# Altium schematic symbol library Antennas.SchLib: 7 symbols
Pins are listed as number, name and electrical type; pins without a type are passive.

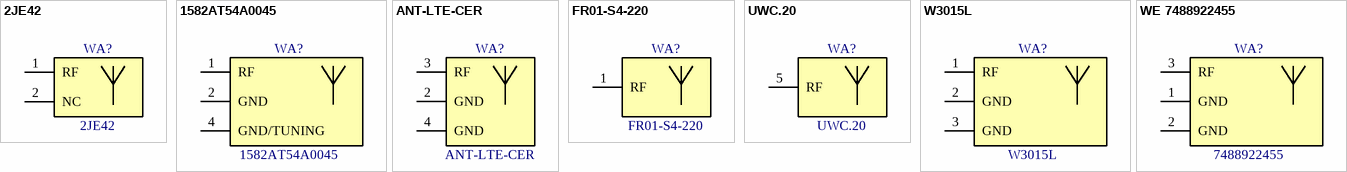
[diagram p0: symbols 2JE42 to WE 7488922455]

## 2JE42
designator WA?
915 MHz ISM Surface Mount; Manufacturer: 2J Antennas; PartNumber: 2JE42; ComponentLink1Description: Product Page; ComponentLink1URL: https://www.2j-antennas.com/antennas/single-internal-antennas/2je42-915-mhz-ism-surface-mount-compact-fiberglass-antenna/676; ComponentLink2Description: DataSheet; ComponentLink2URL: https://www.2j-antennas.com/media/original/datasheets/2je42.pdf
footprint 2JE42 (915 MHz ISM Surface Mount)
pins: 1 RF, 2 NC

## 1582AT54A0045
designator WA?
1.585GHz Global Navigation (GPS, GLONASS, Beidou, Galileo) SMD Chip Antenna; Manufacturer: Johanson Technology; PartNumber: 1582AT54A0045; ComponentLink1Description: Product Page; ComponentLink1URL: https://www.johansontechnology.com/antennas?option=com_products&id=1582AT54A0045; ComponentLink2Description: DataSheet; ComponentLink2URL: https://www.johansontechnology.com/datasheets/1582AT54A0045/1582AT54A0045.pdf
footprint 1582AT54A0045 (Johanson Technology chip antenna 1582AT54A0045)
pins: 1 RF, 2 GND, 4 GND/TUNING

## ANT-LTE-CER
designator WA?
Ceramic  4G/3G/2G LTE Antenna; Manufacturer: Linx Technologies; PartNumber: ANT-LTE-CER; ComponentLink1Description: Product Page; ComponentLink1URL: https://linxtechnologies.com/wp/product/lte-chip-antenna/
footprint ANT-LTE-CER (Linx ANT-LTE-CER)
pins: 1 NC hidden, 2 GND, 3 RF, 4 GND, 5 NC hidden

## FR01-S4-220
designator WA?
The ALL mXTENDTM chip antenna standards GSM850, GSM900,  GSM1800/DCS, GSM1900/PCS, UMTS, LTE700, LTE800, LTE850, LTE900, LTE1700,  LTE1800, LTE1900, LTE2000, LTE2100, LTE2300, LTE2500, and LTE2600; Manufacturer: Ignion; PartNumber: FR01-S4-220
footprint FR01-S4-220 (ALL mXTEND FR01-S4-220)
pins: 1 RF, 2 NC hidden, 3 NC hidden, 4 NC hidden

## UWC.20
designator WA?
3-5GHz & 6-9GHz Ultra-Wide Band (UWB) SMD Chip Antenna; Manufacturer: Taoglas; PartNumber: UWC.20; ComponentLink1Description: Product Page; ComponentLink1URL: https://www.taoglas.com/product/uwc-20-3-5ghz-6-9ghz-ultra-wideband-uwb-smd-chip-antenna/
footprint UWC.20 (Taoglas Chip-antenna 12mm x 12mm x 3.3mm, GND plane offset 2.4 mm)
pins: 1 NC hidden, 2 NC hidden, 3 NC hidden, 4 NC hidden, 5 RF, 6 NC hidden

## W3015L
designator WA?
ISM433MHz Embedded Antenna; Manufacturer: Pulse; PartNumber: W3015L; ComponentLink1Description: Product Page; ComponentLink1URL: https://productfinder.pulseelectronics.com/product/w3015l
footprint W3015L (Pulse Chip Antenna 3.15 mm X 10 mm X 4 mm)
pins: 1 RF, 2 GND, 3 GND

## WE 7488922455
designator WA?, comment 7488922455
WE-MCA Multilayer Chip Antenna 2400-2500 MHz, 5000-6000 MHz; Manufacturer: Wurth Elekntronik; PartNumber: 7488922455; ComponentLink1Description: Product Page; ComponentLink1URL: https://www.we-online.com/en/components/products/WE-MCA_WCO
footprint WE 7488922455 (WE-MCA Multilayer Chip Antenna)
pins: 1 GND, 2 GND, 3 RF